# EAGLE library part 93LC56B (library 93LC56B)
Check availability <https://pricing.snapeda.com/parts/93LC56B/Microchip/view-part?ref=eda>
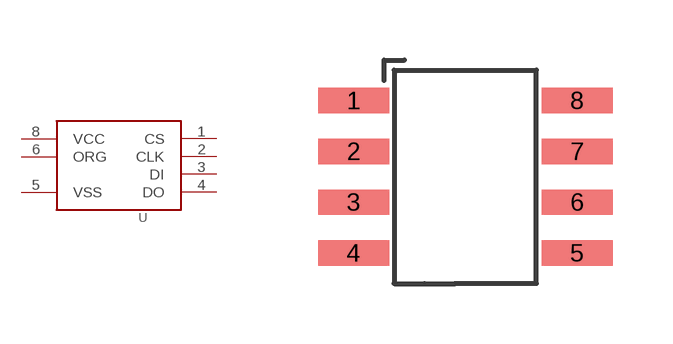
[diagram p0: symbol with the pads of SO8; footprint SO8]

Designator prefix U

## 93LC56B (Availability: In Stock; Description: EEPROM Memory IC 2Kb (128 x 16) SPI 2MHz SOT-23-6; MF: Microchip; MP: 93LC56B; Package: None; Price: None; Purchase-URL: https://pricing.snapeda.com/search/part/93LC56B/?ref=eda)  [SO8]
1  CS
2  CLK
3  DI
4  DO
5  VSS
6  ORG
8  VCC

## Footprint SO8 (pad centres in mm)
smd 1.778 x 0.635: 1 -2.54,2.54; 2 -2.54,1.27; 3 -2.54,0; 4 -2.54,-1.27; 5 3.048,-1.27; 6 3.048,0; 7 3.048,1.27; 8 3.048,2.54